# Altium schematic symbol library Schematics.schlib: 3 symbols
Pins are listed as number, name and electrical type; pins without a type are passive.

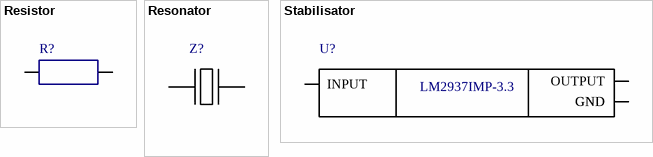
[diagram p0: symbols Resistor to Stabilisator]

## Resistor
designator R?
Резистор, 62 Ом, 0603
footprint SMD_RES_0603 (Chip Resistor, 2-Leads, Body 1,60x0,85mm, IPC Medium Density)
pins: 1, 2

## Resonator
designator Z?
Кварцевый резонатор, 8 МГц
footprint AA-8.000MALV-T
pins: 1, 2

## Stabilisator
designator U?
Линейный стабилизатор, 3.3 В
footprint SOT223 (Footprint not found)
pins: 1 INPUT, 2 GND, 3 OUTPUT, 4 GND
text: LM2937IMP-3.3